# Altium schematic symbol library 555.Schlib: 1 symbol
Pins are listed as number, name and electrical type; pins without a type are passive.

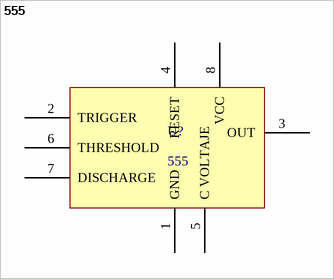
[diagram p0: symbol 555]

## 555
designator U?
pins: 1 GND, 2 TRIGGER, 3 OUT, 4 RESET, 5 C VOLTAJE, 6 THRESHOLD, 7 DISCHARGE, 8 VCC